# Altium schematic symbol library XTAL 32.7680KHZ 12.5PF SMD 3215.Schlib: 1 symbol
Pins are listed as number, name and electrical type; pins without a type are passive.

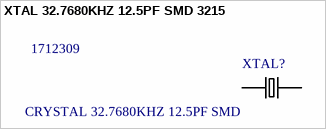
[diagram p0: symbol XTAL 32.7680KHZ 12.5PF SMD 3215]

## XTAL 32.7680KHZ 12.5PF SMD 3215
designator XTAL?, comment CRYSTAL 32.7680KHZ 12.5PF SMD  Supplier Part Number 1: 1712309
32.768kHz ±20ppm Crystal 12.5pF 70 kOhms 3215SMD, No Lead; MP: Q13FC1350000400; MF: Seiko Epson; Package: 2-SMD, No Lead; Frequency: 32.768kHz; ComponentLink1Description: Digikey; ComponentLink1URL: https://www.digikey.ca/en/products/detail/ndk-america-inc/NX3215SA-32-768K-STD-MUA-8/2261469; ComponentLink2Description: Datasheet; ComponentLink2URL: https://media.digikey.com/datasheets/production/702868/1/NX3215SA-32-768K-STD-MUA-8.html; Supplier 1: RSComponents
footprint 3215 SMD2 (3.2 x 1.5mm 2Lead)
pins: 1, 2